# EAGLE library part DX4R205JJAR1800 (library DX4R205JJAR1800)
CONN RCPT MICRO USB 2.0 AB
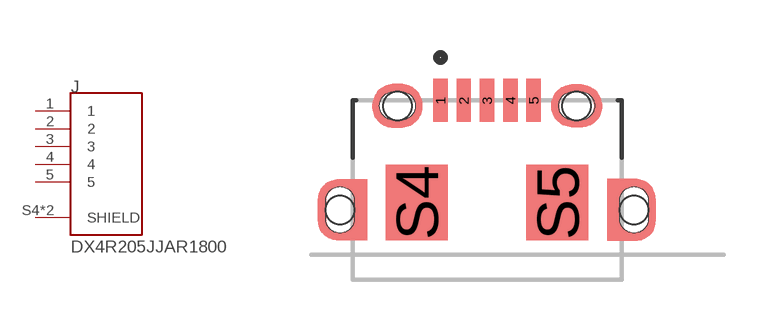
[diagram p0: symbol with the pads of JAE_DX4R205JJAR1800; footprint JAE_DX4R205JJAR1800]

Designator prefix J

## DX4R205JJAR1800 (Description: DX4 series, receptacle, on-board, right-angle standard mount, surface mount; Digi-Key_Part_Number: 670-2677-1-ND; Digi-Key_Purchase_URL: https://www.digikey.com/product-detail/en/jae-electronics/DX4R205JJAR1800/670-2677-1-ND/3903237?utm_source=snapeda&utm_medium=aggregator&utm_campaign=symbol; MF: JAE Electronics; MP: DX4R205JJAR1800; Package: None)  [JAE_DX4R205JJAR1800]
1  1  pas
2  2  pas
3  3  pas
4  4  pas
5  5  pas
S4  SHIELD  pas
S5  SHIELD  pas

## Footprint JAE_DX4R205JJAR1800 (pad centres in mm)
smd 0.4 x 1.2: 1 -1.3,4.3; 2 -0.65,4.3; 3 0,4.3; 4 0.65,4.3; 5 1.3,4.3
smd 1.725 x 2.1: S4 -1.962,1.45; S5 1.962,1.45
hole 0.8 at -4.1,1.25
hole 0.8 at 4.1,1.25
hole 0.8 at -2.5,4.15
hole 0.8 at 2.5,4.15